# Altium schematic symbol library Diode_Vishay_TLDR4900_eec.SchLib: 1 symbol
Pins are listed as number, name and electrical type; pins without a type are passive.

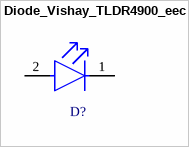
[diagram p0: symbol Diode_Vishay_TLDR4900_eec]

## Diode_Vishay_TLDR4900_eec
designator D?
DIODE Red 648nm LED Indication - Discrete 1.8V Radial; Part Number: TLDR4900; Manufacturer: Vishay; helpURL: https://upverter.com/upn/revision/3413b80474b1e1cb/; ComponentLink2Description: Datasheet; Temperature: -40°C to +100°C; Package: RADIAL; Supplier 2: Mouser; Price: 0.284696517124; Supplier 1: Digi-Key; ComponentLink1URL: https://upverter.com/upn/revision/3413b80474b1e1cb/; Supplier Part Number 2: 78-TLDR4900; Supplier Part Number 1: 751-1089-ND; ComponentLink1Description: Upverter; ComponentLink2URL: https://upverter.com/datasheet/eb3511e92b833138717dd1aad2a9f7f88fefa88c.pdf; RoHS: TRUE; Mouser Part Number: 78-TLDR4900; Ipc Land Pattern Name: DIORD254W85D320H610; Temperature Range High: +100°C; Digikey Description: DIODE Red 648nm LED Indication - Discrete 1.8V Radial; Digikey Part Number: 751-1089-ND; Lead Free: yes; Temperature Range Low: -40°C
footprint Vishay_TLDR4900_0
pins: 1 C, 2 A